# EAGLE library part C4E6-K (library FPGA-BOARD)
FPGA board size C4E6 - Cyclone IV
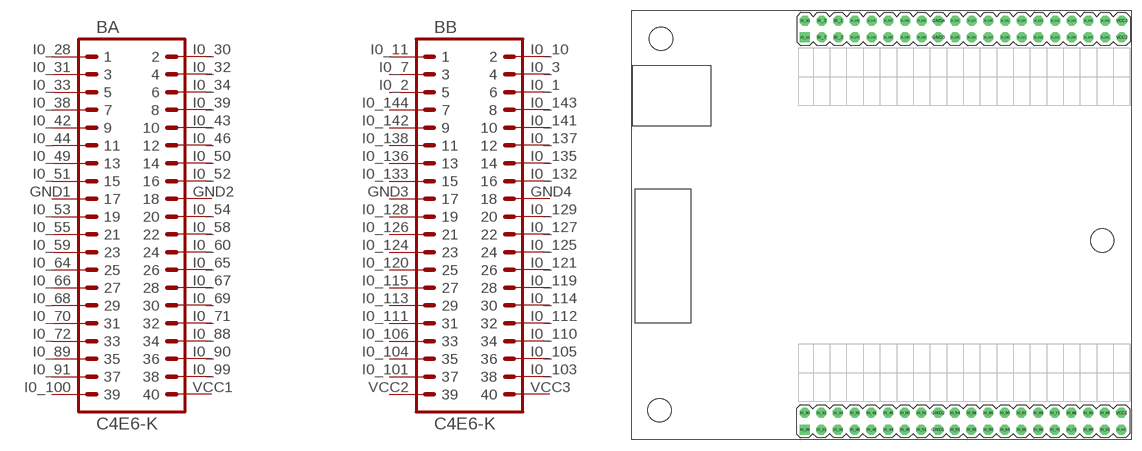
[diagram p0: symbol with the pads of E6V33; footprint E6V33]

Designator prefix B; gates A=MA20-2 B=MA20-2

## C4E6-K""  [E6V33]
GND1  A:17  pas
GND2  A:18  pas
GND3  B:17  pas
GND4  B:18  pas
I0_1  B:6  pas
I0_2  B:5  pas
I0_3  B:4  pas
I0_7  B:3  pas
I0_10  B:2  pas
I0_11  B:1  pas
I0_28  A:1  pas
I0_30  A:2  pas
I0_31  A:3  pas
I0_32  A:4  pas
I0_33  A:5  pas
I0_34  A:6  pas
I0_38  A:7  pas
I0_39  A:8  pas
I0_42  A:9  pas
I0_43  A:10  pas
I0_44  A:11  pas
I0_46  A:12  pas
I0_49  A:13  pas
I0_50  A:14  pas
I0_51  A:15  pas
I0_52  A:16  pas
I0_53  A:19  pas
I0_54  A:20  pas
I0_55  A:21  pas
I0_58  A:22  pas
I0_59  A:23  pas
I0_60  A:24  pas
I0_64  A:25  pas
I0_65  A:26  pas
I0_66  A:27  pas
I0_67  A:28  pas
I0_68  A:29  pas
I0_69  A:30  pas
I0_70  A:31  pas
I0_71  A:32  pas
I0_72  A:33  pas
I0_88  A:34  pas
I0_89  A:35  pas
I0_90  A:36  pas
I0_91  A:37  pas
I0_99  A:38  pas
I0_100  A:39  pas
I0_101  B:37  pas
I0_103  B:38  pas
I0_104  B:35  pas
I0_105  B:36  pas
I0_106  B:33  pas
I0_110  B:34  pas
I0_111  B:31  pas
I0_112  B:32  pas
I0_113  B:29  pas
I0_114  B:30  pas
I0_115  B:27  pas
I0_119  B:28  pas
I0_120  B:25  pas
I0_121  B:26  pas
I0_124  B:23  pas
I0_125  B:24  pas
I0_126  B:21  pas
I0_127  B:22  pas
I0_128  B:19  pas
I0_129  B:20  pas
I0_132  B:16  pas
I0_133  B:15  pas
I0_135  B:14  pas
I0_136  B:13  pas
I0_137  B:12  pas
I0_138  B:11  pas
I0_141  B:10  pas
I0_142  B:9  pas
I0_143  B:8  pas
I0_144  B:7  pas
VCC1  A:40  pas
VCC2  B:39  pas
VCC3  B:40  pas

## Footprint E6V33 (pad centres in mm)
PIN HEADER
drill 1.016 octagon: GND1 46.99,-31.14; GND2 46.99,-28.6; GND3 47.041,28.6; GND4 47.041,31.14; I0_1 31.801,31.14; I0_2 31.801,28.6; I0_3 29.261,31.14; I0_7 29.261,28.6; I0_10 26.721,31.14; I0_30 26.67,-28.6; I0_31 29.21,-31.14; I0_32 29.21,-28.6; I0_33 31.75,-31.14; I0_34 31.75,-28.6; I0_38 34.29,-31.14; I0_39 34.29,-28.6; I0_42 36.83,-31.14; I0_43 36.83,-28.6; I0_44 39.37,-31.14; I0_46 39.37,-28.6; I0_49 41.91,-31.14; I0_50 41.91,-28.6; I0_51 44.45,-31.14; I0_52 44.45,-28.6; I0_53 49.53,-31.14; I0_54 49.53,-28.6; I0_55 52.07,-31.14; I0_58 52.07,-28.6; I0_59 54.61,-31.14; I0_60 54.61,-28.6; I0_64 57.15,-31.14; I0_65 57.15,-28.6; I0_66 59.69,-31.14; I0_67 59.69,-28.6; I0_68 62.23,-31.14; I0_69 62.23,-28.6; I0_70 64.77,-31.14; I0_71 64.77,-28.6; I0_72 67.31,-31.14; I0_88 67.31,-28.6; I0_89 69.85,-31.14; I0_90 69.85,-28.6; I0_91 72.39,-31.14; I0_99 72.39,-28.6; I0_100 74.93,-31.14; I0_101 72.441,28.6; I0_103 72.441,31.14; I0_104 69.901,28.6; I0_105 69.901,31.14; I0_106 67.361,28.6; I0_110 67.361,31.14; I0_111 64.821,28.6; I0_112 64.821,31.14; I0_113 62.281,28.6; I0_114 62.281,31.14; I0_115 59.741,28.6; I0_119 59.741,31.14; I0_120 57.201,28.6; I0_121 57.201,31.14; I0_124 54.661,28.6; I0_125 54.661,31.14; I0_126 52.121,28.6; I0_127 52.121,31.14; I0_128 49.581,28.6; I0_129 49.581,31.14; I0_132 44.501,31.14; I0_133 44.501,28.6; I0_135 41.961,31.14; I0_136 41.961,28.6; I0_137 39.421,31.14; I0_138 39.421,28.6; I0_141 36.881,31.14; I0_142 36.881,28.6; I0_143 34.341,31.14; I0_144 34.341,28.6; VCC1 74.93,-28.6; VCC2 74.981,28.6; VCC3 74.981,31.14
drill 1.016 square: I0_11 26.721,28.6; I0_28 26.67,-31.14